# Altium schematic symbol library USB MINI B.SchLib: 1 symbol
Pins are listed as number, name and electrical type; pins without a type are passive.

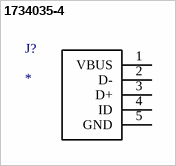
[diagram p0: symbol 1734035-4]

## 1734035-4
designator J?
Connector; Manufacturer_Name: TE Connectivity; Manufacturer_Part_Number: 1734035-4; Datasheet Link: http://www.te.com/commerce/DocumentDelivery/DDEController?Action=srchrtrv&DocNm=1734035&DocType=Customer+Drawing&DocLang=English&DocFormat=pdf&PartCntxt=1734035-4; Mouser Part Number: 571-1734035-4; Mouser Price/Stock: https://www.mouser.com/Search/Refine.aspx?Keyword=571-1734035-4
footprint 1734035-2USB
pins: 1 VBUS, 2 D-, 3 D+, 4 ID, 5 GND